# EAGLE library part MCP4921-X/MS (library MCP4921)
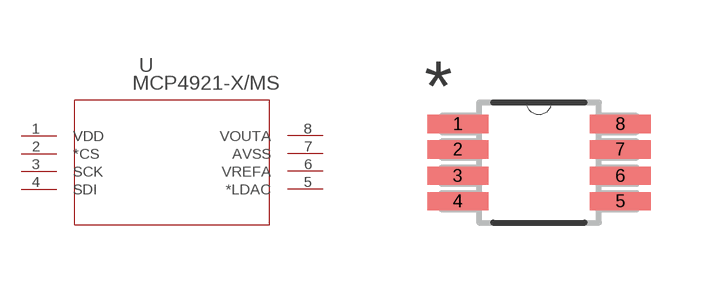
[diagram p0: symbol with the pads of MSOP8_MC; footprint MSOP8_MC]

Designator prefix -

## MCP4921-X/MSDAC  [MSOP8_MC]
1  VDD  pas
2  *CS  pas
3  SCK  pas
4  SDI  pas
5  *LDAC  pas
6  VREFA  pas
7  AVSS  pas
8  VOUTA  pas

## Footprint MSOP8_MC (pad centres in mm)
smd 1.524 x 0.457: 1 -2.032,0.965; 2 -2.032,0.33; 3 -2.032,-0.33; 4 -2.032,-0.965; 5 2.032,-0.965; 6 2.032,-0.33; 7 2.032,0.33; 8 2.032,0.965